# Altium schematic symbol library Modules_LT.SchLib: 2 symbols
Pins are listed as number, name and electrical type; pins without a type are passive.

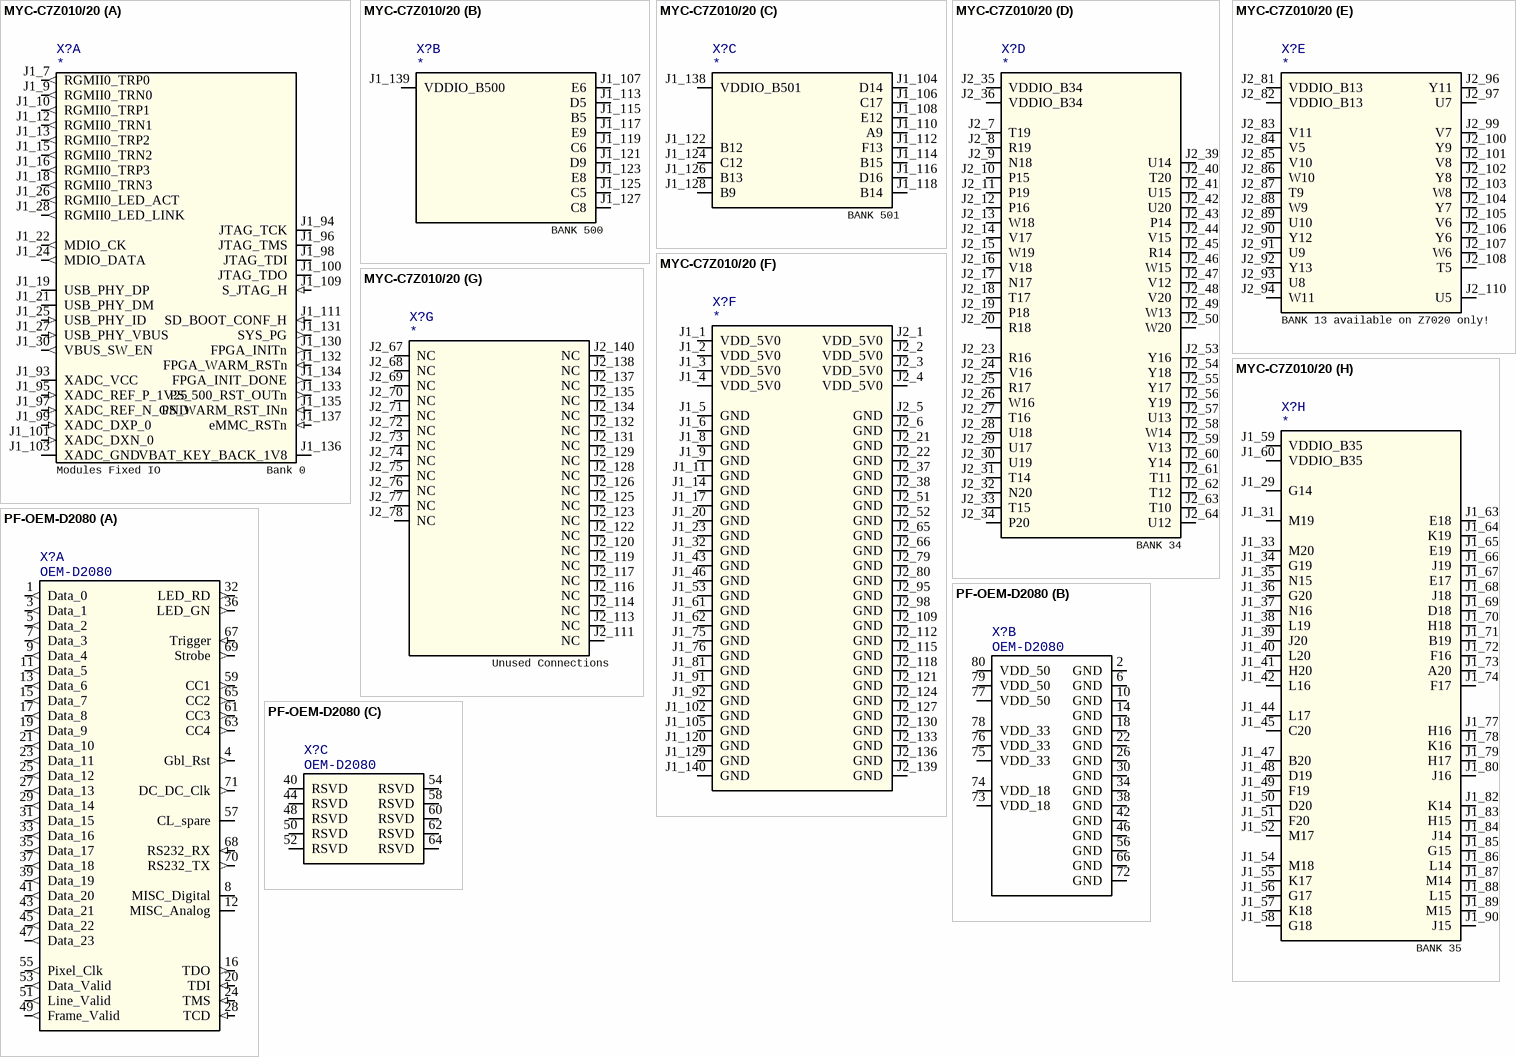
[diagram p0: symbols MYC-C7Z010/20 to PF-OEM-D2080]

## MYC-C7Z010/20
designator X?
footprint MYIR-MYC-C7Z010/20 (Module, SMD, MYIR MYC-C7Z010/20)
part A pins: J1_7 RGMII0_TRP0 (out), J1_9 RGMII0_TRN0 (out), J1_10 RGMII0_TRP1 (out), J1_12 RGMII0_TRN1 (out), J1_13 RGMII0_TRP2 (out), J1_15 RGMII0_TRN2 (out), J1_16 RGMII0_TRP3 (out), J1_18 RGMII0_TRN3 (out), J1_19 USB_PHY_DP (io), J1_21 USB_PHY_DM (io), J1_22 MDIO_CK (out), J1_24 MDIO_DATA (out), J1_25 USB_PHY_ID (in), J1_26 RGMII0_LED_ACT (out), J1_27 USB_PHY_VBUS (in), J1_28 RGMII0_LED_LINK (out), J1_30 VBUS_SW_EN (out), J1_93 XADC_VCC (io), J1_94 JTAG_TCK (io), J1_95 XADC_REF_P_1V25 (in), J1_96 JTAG_TMS (io), J1_97 XADC_REF_N_GND (in), J1_98 JTAG_TDI (io), J1_99 XADC_DXP_0 (in), J1_100 JTAG_TDO (io), J1_101 XADC_DXN_0 (in), J1_103 XADC_GND (power), J1_109 S_JTAG_H (in), J1_111 SD_BOOT_CONF_H (in), J1_130 FPGA_INITn (out), J1_131 SYS_PG (out), J1_132 FPGA_WARM_RSTn (in), J1_133 PS_500_RST_OUTn (out), J1_134 FPGA_INIT_DONE (out), J1_135 PS_WARM_RST_INn (in), J1_136 VBAT_KEY_BACK_1V8 (power), J1_137 eMMC_RSTn (in)
part B pins: J1_107 E6 (io), J1_113 D5 (io), J1_115 B5 (io), J1_117 E9 (io), J1_119 C6 (io), J1_121 D9 (io), J1_123 E8 (io), J1_125 C5 (io), J1_127 C8 (io), J1_139 VDDIO_B500 (power)
part C pins: J1_104 D14 (io), J1_106 C17 (io), J1_108 E12 (io), J1_110 A9 (io), J1_112 F13 (io), J1_114 B15 (io), J1_116 D16 (io), J1_118 B14 (io), J1_122 B12 (io), J1_124 C12 (io), J1_126 B13 (io), J1_128 B9 (io), J1_138 VDDIO_B501 (power)
part D pins: J2_7 T19 (io), J2_8 R19 (io), J2_9 N18 (io), J2_10 P15 (io), J2_11 P19 (io), J2_12 P16 (io), J2_13 W18 (io), J2_14 V17 (io), J2_15 W19 (io), J2_16 V18 (io), J2_17 N17 (io), J2_18 T17 (io), J2_19 P18 (io), J2_20 R18 (io), J2_23 R16 (io), J2_24 V16 (io), J2_25 R17 (io), J2_26 W16 (io), J2_27 T16 (io), J2_28 U18 (io), J2_29 U17 (io), J2_30 U19 (io), J2_31 T14 (io), J2_32 N20 (io), J2_33 T15 (io), J2_34 P20 (io), J2_35 VDDIO_B34 (power), J2_36 VDDIO_B34 (power), J2_39 U14 (io), J2_40 T20 (io), J2_41 U15 (io), J2_42 U20 (io), J2_43 P14 (io), J2_44 V15 (io), J2_45 R14 (io), J2_46 W15 (io), J2_47 V12 (io), J2_48 V20 (io), J2_49 W13 (io), J2_50 W20 (io), J2_53 Y16 (io), J2_54 Y18 (io), J2_55 Y17 (io), J2_56 Y19 (io), J2_57 U13 (io), J2_58 W14 (io), J2_59 V13 (io), J2_60 Y14 (io), J2_61 T11 (io), J2_62 T12 (io), J2_63 T10 (io), J2_64 U12 (io)
part E pins: J2_81 VDDIO_B13 (power), J2_82 VDDIO_B13 (power), J2_83 V11 (io), J2_84 V5 (io), J2_85 V10 (io), J2_86 W10 (io), J2_87 T9 (io), J2_88 W9 (io), J2_89 U10 (io), J2_90 Y12 (io), J2_91 U9 (io), J2_92 Y13 (io), J2_93 U8 (io), J2_94 W11 (io), J2_96 Y11 (io), J2_97 U7 (io), J2_99 V7 (io), J2_100 Y9 (io), J2_101 V8 (io), J2_102 Y8 (io), J2_103 W8 (io), J2_104 Y7 (io), J2_105 V6 (io), J2_106 Y6 (io), J2_107 W6 (io), J2_108 T5 (io), J2_110 U5 (io)
part F pins: J1_1 VDD_5V0 (power), J1_2 VDD_5V0 (power), J1_3 VDD_5V0 (power), J1_4 VDD_5V0 (power), J1_5 GND (power), J1_6 GND (power), J1_8 GND (power), J1_9 GND (power), J1_11 GND (power), J1_14 GND (power), J1_17 GND (power), J1_20 GND (power), J1_23 GND (power), J1_32 GND (power), J1_43 GND (power), J1_46 GND (power), J1_53 GND (power), J1_61 GND (power), J1_62 GND (power), J1_75 GND (power), J1_76 GND (power), J1_81 GND (power), J1_91 GND (power), J1_92 GND (power), J1_102 GND (power), J1_105 GND (power), J1_120 GND (power), J1_129 GND (power), J1_140 GND (power), J2_1 VDD_5V0 (power), J2_2 VDD_5V0 (power), J2_3 VDD_5V0 (power), J2_4 VDD_5V0 (power), J2_5 GND (power), J2_6 GND (power), J2_21 GND (power), J2_22 GND (power), J2_37 GND (power), J2_38 GND (power), J2_51 GND (power), J2_52 GND (power), J2_65 GND (power), J2_66 GND (power), J2_79 GND (power), J2_80 GND (power), J2_95 GND (power), J2_98 GND (power), J2_109 GND (power), J2_112 GND (power), J2_115 GND (power), J2_118 GND (power), J2_121 GND (power), J2_124 GND (power), J2_127 GND (power), J2_130 GND (power), J2_133 GND (power), J2_136 GND (power), J2_139 GND (power)
part G pins: J2_67 NC (io), J2_68 NC (io), J2_69 NC (io), J2_70 NC (io), J2_71 NC (io), J2_72 NC (io), J2_73 NC (io), J2_74 NC (io), J2_75 NC (io), J2_76 NC (io), J2_77 NC (io), J2_78 NC (io), J2_111 NC (io), J2_113 NC (io), J2_114 NC (io), J2_116 NC (io), J2_117 NC (io), J2_119 NC (io), J2_120 NC (io), J2_122 NC (io), J2_123 NC (io), J2_125 NC (io), J2_126 NC (io), J2_128 NC (io), J2_129 NC (io), J2_131 NC (io), J2_132 NC (io), J2_134 NC (io), J2_135 NC (io), J2_137 NC (io), J2_138 NC (io), J2_140 NC (io)
part H pins: J1_29 G14 (io), J1_31 M19 (io), J1_33 M20 (io), J1_34 G19 (io), J1_35 N15 (io), J1_36 G20 (io), J1_37 N16 (io), J1_38 L19 (io), J1_39 J20 (io), J1_40 L20 (io), J1_41 H20 (io), J1_42 L16 (io), J1_44 L17 (io), J1_45 C20 (io), J1_47 B20 (io), J1_48 D19 (io), J1_49 F19 (io), J1_50 D20 (io), J1_51 F20 (io), J1_52 M17 (io), J1_54 M18 (io), J1_55 K17 (io), J1_56 G17 (io), J1_57 K18 (io), J1_58 G18 (io), J1_59 VDDIO_B35 (power), J1_60 VDDIO_B35 (power), J1_63 E18 (io), J1_64 K19 (io), J1_65 E19 (io), J1_66 J19 (io), J1_67 E17 (io), J1_68 J18 (io), J1_69 D18 (io), J1_70 H18 (io), J1_71 B19 (io), J1_72 F16 (io), J1_73 A20 (io), J1_74 F17 (io), J1_77 H16 (io), J1_78 K16 (io), J1_79 H17 (io), J1_80 J16 (io), J1_82 K14 (io), J1_83 H15 (io), J1_84 J14 (io), J1_85 G15 (io), J1_86 L14 (io), J1_87 M14 (io), J1_88 L15 (io), J1_89 M15 (io), J1_90 J15 (io)
part A text: Modules Fixed IO; Bank 0
part B text: BANK 500
part C text: BANK 501
part D text: BANK 34
part E text: BANK 13 available on Z7020 only!
part G text: Unused Connections
part H text: BANK 35

## PF-OEM-D2080
designator X?, comment OEM-D2080
Manufacturer_Part_Number: DF17(XX)-80DP-0.5V(XX); Module_Manufacturer: PhotonFocus; Module_Manufacturer_Part_Nr: OEM_D2080; Manufacturer: Hirose
footprint PF-OEM-D2080 (Receptable, SMD, 80 Pin, Pitch 0.5, DF17(XX)-80DS-0.5V(XX))
part A pins: 1 Data_0 (out), 3 Data_1 (out), 4 Gbl_Rst (out), 5 Data_2 (out), 7 Data_3 (out), 8 MISC_Digital (power), 9 Data_4 (out), 11 Data_5 (out), 12 MISC_Analog (power), 13 Data_6 (out), 15 Data_7 (out), 16 TDO (out), 17 Data_8 (out), 19 Data_9 (out), 20 TDI (in), 21 Data_10 (out), 23 Data_11 (out), 24 TMS (in), 25 Data_12 (out), 27 Data_13 (out), 28 TCD (in), 29 Data_14 (out), 31 Data_15 (out), 32 LED_RD (out), 33 Data_16 (out), 35 Data_17 (out), 36 LED_GN (out), 37 Data_18 (out), 39 Data_19 (out), 41 Data_20 (out), 43 Data_21 (out), 45 Data_22 (out), 47 Data_23 (out), 49 Frame_Valid (out), 51 Line_Valid (out), 53 Data_Valid (out), 55 Pixel_Clk (out), 57 CL_spare (io), 59 CC1 (out), 61 CC3 (out), 63 CC4 (out), 65 CC2 (out), 67 Trigger (in), 68 RS232_RX (in), 69 Strobe (out), 70 RS232_TX (out), 71 DC_DC_Clk (out)
part B pins: 2 GND (power), 6 GND (power), 10 GND (power), 14 GND (power), 18 GND (power), 22 GND (power), 26 GND (power), 30 GND (power), 34 GND (power), 38 GND (power), 42 GND (power), 46 GND (power), 56 GND (power), 66 GND (power), 72 GND (power), 73 VDD_18 (power), 74 VDD_18 (power), 75 VDD_33 (power), 76 VDD_33 (power), 77 VDD_50 (power), 78 VDD_33 (power), 79 VDD_50 (power), 80 VDD_50 (power)
part C pins: 40 RSVD (io), 44 RSVD (io), 48 RSVD (io), 50 RSVD (io), 52 RSVD (io), 54 RSVD (io), 58 RSVD (io), 60 RSVD (io), 62 RSVD (io), 64 RSVD (io)